# EAGLE library part MYDIYCNC_SPINDLE_CONTROLLER (library teelsys-0.2)
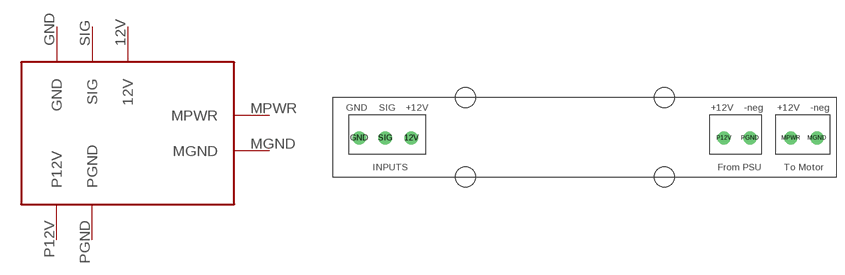
[diagram p12: symbol with the pads of MYDIYCNC_SPINDLE_CONTROLLER; footprint MYDIYCNC_SPINDLE_CONTROLLER]

Designator prefix -

## MYDIYCNC_SPINDLE_CONTROLLER  [MYDIYCNC_SPINDLE_CONTROLLER]
12V  12V
GND  GND
MGND  MGND
MPWR  MPWR
P12V  P12V
PGND  PGND
SIG  SIG

## Footprint MYDIYCNC_SPINDLE_CONTROLLER (pad centres in mm)
drill 1.143 pad 2.54: 12V 15.08,7.518; GND 5.08,7.518; MGND 92.744,7.518; MPWR 87.744,7.518; P12V 74.93,7.518; PGND 79.93,7.518; SIG 10.08,7.518
hole 3.81 at 25.4,15.24
hole 3.81 at 63.5,15.24
hole 3.81 at 25.4,0
hole 3.81 at 63.5,0